# Altium schematic symbol library AD8130ARZ.Schlib: 1 symbol
Pins are listed as number, name and electrical type; pins without a type are passive.

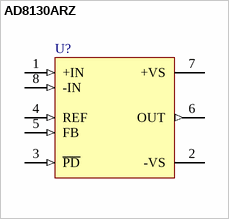
[diagram p0: symbol AD8130ARZ]

## AD8130ARZ
designator U?
pins: 1 +IN (in), 2 -VS (power), 3 ~{PD} (in), 4 REF (in), 5 FB (in), 6 OUT (out), 7 +VS (power), 8 -IN (in)